# Altium footprint library TE Tactile Switches.PcbLib: 2 footprints
Each footprint in its own frame and in the unit in brackets; x right, y up, seen from the top. Pads: shape width x height; smd on the part's side, far side on the other; paste and mask are expansions set on the pad; w line width, h text height; cw(c..) or ccw(c..) is an arc to the next point about the centre after c.
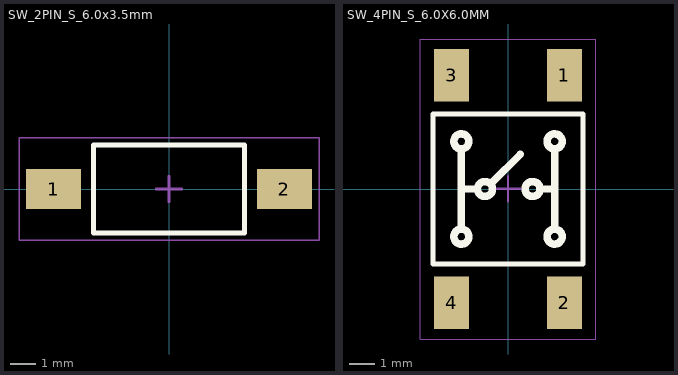
[diagram p0: the footprints below, top view; thin cyan lines are the x and y axes]

## SW_2PIN_S_6.0x3.5mm [mm] "Tact Switch, 2 Leads, Body 6.00(L) x 3.00(W) x 5.00(H) mm"
height 5
pads (2):
  rect 2.19x1.6 smd: 1(-4.595,0) 2(4.595,0)
Top Overlay:
  lines w0.2: -3,-1.75 3,-1.75 3,1.75 -3,1.75 -3,-1.75
Mechanical 13:
  lines w0.1: -3,-1.75 3,-1.75 ; -3,-1.5 -3,1.524 ; -3,1.75 3,1.75 ; 3,-1.5 3,1.524
Mechanical 15:
  lines w0.05: -5.969,-2.032 5.969,-2.032 5.969,2.032 -5.969,2.032 -5.969,-2.032
  lines w0.1: -0.5,0 0.5,0 ; 0,-0.5 0,0.5
3D body: height 0.48, standoff 0, extent 2.159,-1.75 3,1.75
3D body: height 0.48, standoff 0, extent -3,-1.75 -2.159,1.75
3D body: height 0.48, standoff 0, extent -2.159,-1.75 2.159,1.75

## SW_4PIN_S_6.0X6.0MM [mm] "SMD 4-Pin, Body 7x5mm, IPC Medium Density"
height 0.6
pads (4):
  rect 1.4x2.1 smd: 1(2.25,4.55) 2(2.25,-4.55) 3(-2.25,4.55) 4(-2.25,-4.55)
Top Overlay:
  circle w0.3: c1.865,-1.905 r0.3
  circle w0.3: c1.865,1.905 r0.3
  circle w0.3: c-1.865,1.905 r0.3
  circle w0.3: c-1.865,-1.905 r0.3
  circle w0.3: c-0.921,0 r0.3
  circle w0.3: c0.984,0 r0.3
  lines w0.2: -3,-3 3,-3 3,3 -3,3 -3,-3
  lines w0.3: -1.865,-1.524 -1.865,1.524 ; -1.865,0 -1.27,0 ; -0.635,0.254 -0.635,0.262 0.5,1.397 ; 1.865,-1.524 1.865,1.524 ; 1.865,0 1.284,0 ; 1.284,0 1.284,0
Mechanical 13:
  lines w0.1: -3,-3 -3,3 3,3 3,-3 -3,-3
Mechanical 15:
  lines w0.05: -3.5,-6 -3.5,6 3.5,6 3.5,-6 -3.5,-6
  lines w0.1: -0.5,0 0.5,0 ; 0,-0.5 0,0.5
3D body: height 0.6, standoff 0.01, extent -3,-3 3,3